# EAGLE library part PINHD-1X9 (library adafruit)
Pin header 1x10 0.1" spacing With round pins
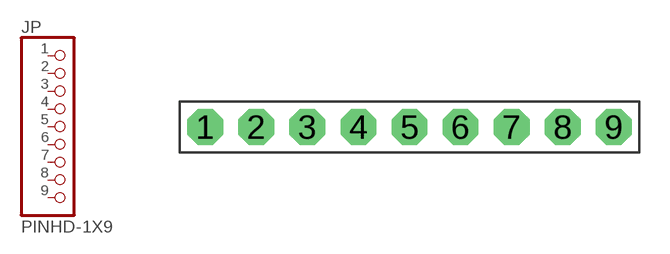
[diagram p14: symbol with the pads of 1X09-BIG; footprint 1X09-BIG]

Designator prefix JP

## PINHD-1X9  [1X09-BIG]
1  1  pas
2  2  pas
3  3  pas
4  4  pas
5  5  pas
6  6  pas
7  7  pas
8  8  pas
9  9  pas

## Footprint 1X09-BIG (pad centres in mm)
drill 1.016 pad 1.778 octagon: 1 -10.16,0; 2 -7.62,0; 3 -5.08,0; 4 -2.54,0; 5 0,0; 6 2.54,0; 7 5.08,0; 8 7.62,0; 9 10.16,0